# Altium footprint library 877-0833.PCBLIB: 1 footprints
Each footprint in its own frame and in the unit in brackets; x right, y up, seen from the top. Pads: shape width x height; smd on the part's side, far side on the other; paste and mask are expansions set on the pad; w line width, h text height; cw(c..) or ccw(c..) is an arc to the next point about the centre after c.
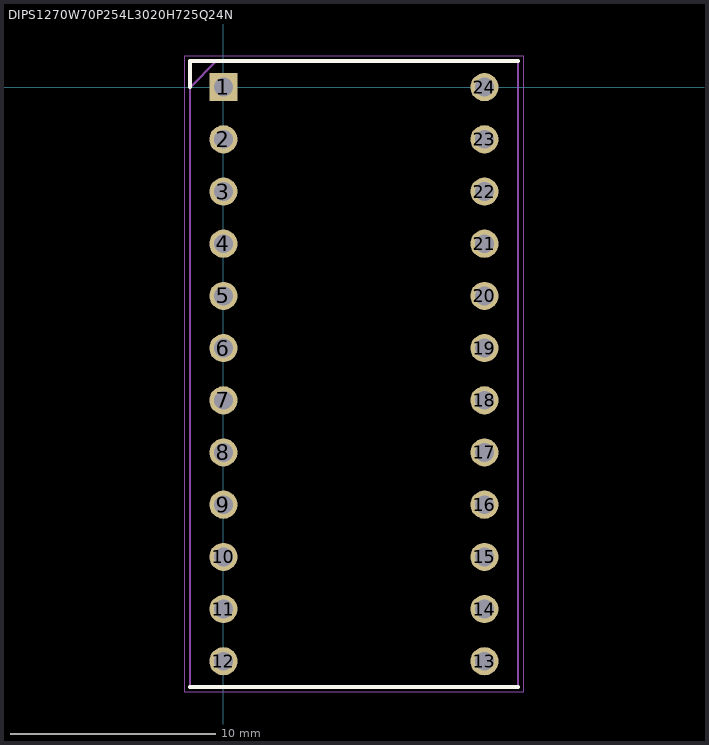
[diagram p0: the footprint, top view; thin cyan lines are the x and y axes]

## DIPS1270W70P254L3020H725Q24N [mil]
pads (24):
  rect 54x54 hole 36: 1(0,0)
  round 54 hole 36: 2(0,-100) 3(0,-200) 4(0,-300) 5(0,-400) 6(0,-500) 7(0,-600) 8(0,-700) 9(0,-800) 10(0,-900) 11(0,-1000) 12(0,-1100) 13(500,-1100) 14(500,-1000) 15(500,-900) 16(500,-800) 17(500,-700) 18(500,-600) 19(500,-500) 20(500,-400) 21(500,-300) 22(500,-200) 23(500,-100) 24(500,0)
Top Overlay:
  lines w8: -63.98,-1149.41 564,-1149.41 ; -63.98,0 -63.98,50 564,50
Courtyard Bottom:
  lines w2: -73.82,-1159.25 574,-1159.25 574,60 -73.82,60 -73.82,-1159.25
  lines w4: -63.98,-0.59 -13.98,50 ; -63.98,-1149.41 564,-1149.41 564,50 -63.98,50 -63.98,-1149.41